# Altium schematic symbol library ADCMP582.SchLib: 1 symbol
Pins are listed as number, name and electrical type; pins without a type are passive.

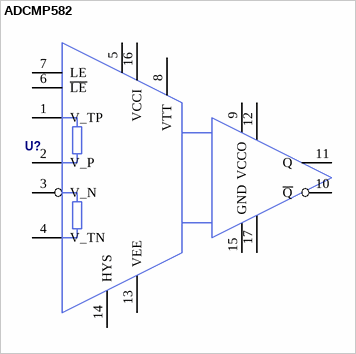
[diagram p0: symbol ADCMP582]

## ADCMP582
designator U?  (value not drawn)
pins: 1 V_TP, 2 V_P, 3 V_N, 4 V_TN, 5 VCCI, 6 ~{LE}, 7 LE, 8 VTT, 9 VCCO, 10 ~{Q}, 11 Q, 12 VCCO, 13 VEE, 14 HYS, 15 GND, 16 VCCI, 17 GND